# Altium footprint library CFP125P1020X250-16N.PcbLib: 1 footprints
Each footprint in its own frame and in the unit in brackets; x right, y up, seen from the top. Pads: shape width x height; smd on the part's side, far side on the other; paste and mask are expansions set on the pad; w line width, h text height; cw(c..) or ccw(c..) is an arc to the next point about the centre after c.
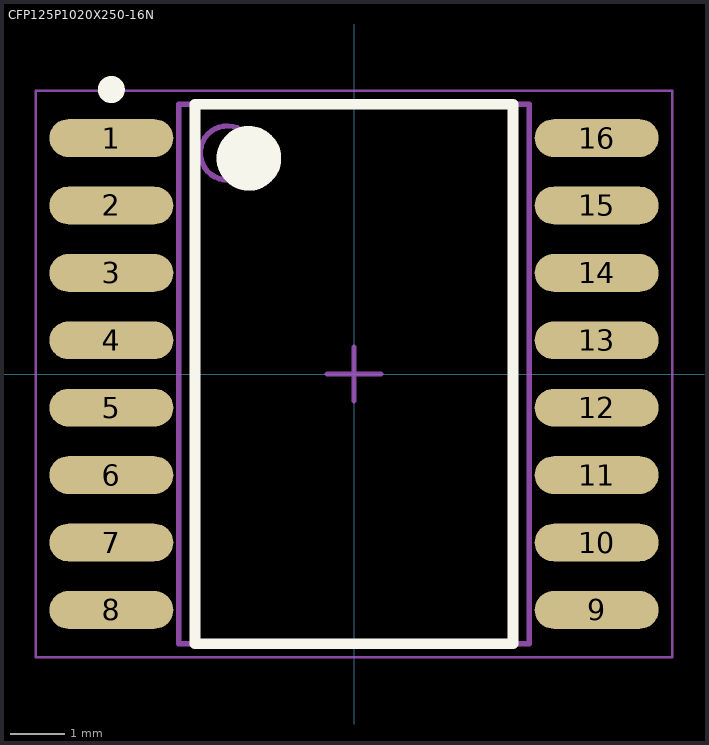
[diagram p0: the footprint, top view; thin cyan lines are the x and y axes]

## CFP125P1020X250-16N [mm] "CFP, 16-Leads, Body 10,00x6,50mm (max), Pitch 1,25mm, IPC Medium Density"
height 2.5
pads (16):
  oval 2.3x0.7 smd: 1(-4.5,4.375) 2(-4.5,3.125) 3(-4.5,1.875) 4(-4.5,0.625) 5(-4.5,-0.625) 6(-4.5,-1.875) 7(-4.5,-3.125) 8(-4.5,-4.375) 9(4.5,-4.375) 10(4.5,-3.125) 11(4.5,-1.875) 12(4.5,-0.625) 13(4.5,0.625) 14(4.5,1.875) 15(4.5,3.125) 16(4.5,4.375)
Top Overlay:
  circle w0.6: c-1.95,4 r0.3
  circle w0.25: c-4.5,5.275 r0.125
  lines w0.2: -2.95,-5 -2.95,5 2.95,5 2.95,-5 -2.95,-5
Mechanical 13:
  circle w0.1: c-2.35,4.1 r0.5
  lines w0.1: -3.25,-5 -3.25,5 3.25,5 3.25,-5 -3.25,-5
Mechanical 15:
  lines w0.05: -5.9,-5.25 -5.9,5.25 5.9,5.25 5.9,-5.25 -5.9,-5.25
  lines w0.1: -0.5,0 0.5,0 ; 0,-0.5 0,0.5
3D body: height 2.5, standoff 0.1, extent -3.25,-5 3.25,5